# Altium schematic symbol library B3U-1000.SchLib: 1 symbol
Pins are listed as number, name and electrical type; pins without a type are passive.

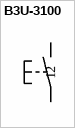
[diagram p0: symbol B3U-3100]

## B3U-3100
designator SW?  (value not drawn)
SWITCH TACTILE SPST-NO 0.05A 12V; Manufacturer Part Number: B3U-3100P-B; Digi-Key Part Number: SW1103CT-ND; Circuit: SPST-NO
footprint B3U
pins: 1, 2